# Altium schematic symbol library ARM_10-pin_interface.SchLib: 1 symbol
Pins are listed as number, name and electrical type; pins without a type are passive.

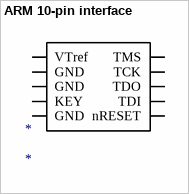
[diagram p0: symbol ARM 10-pin interface]

## ARM 10-pin interface
designator *
footprint ARM 10-pin interface
pins: 1 VTref, 2 TMS, 3 GND, 4 TCK, 5 GND, 6 TDO, 7 KEY, 8 TDI, 9 GND, 10 nRESET